# Altium footprint library other.PcbLib: 6 footprints
Each footprint in its own frame and in the unit in brackets; x right, y up, seen from the top. Pads: shape width x height; smd on the part's side, far side on the other; paste and mask are expansions set on the pad; w line width, h text height; cw(c..) or ccw(c..) is an arc to the next point about the centre after c.
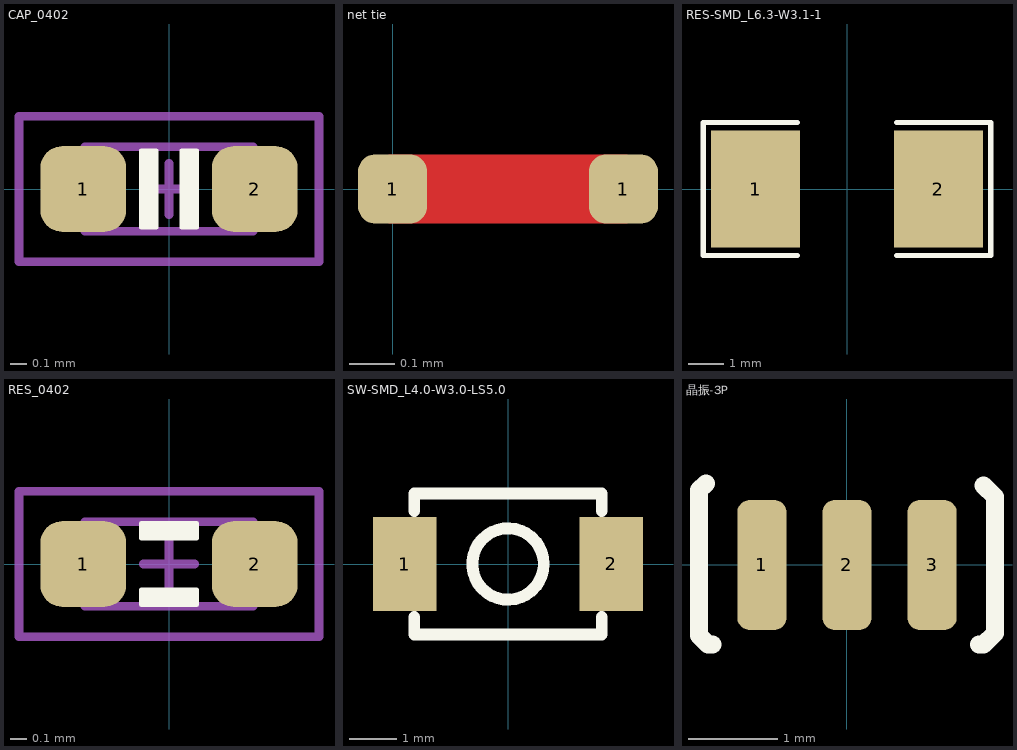
[diagram p0: the footprints below, top view; thin cyan lines are the x and y axes]

## CAP_0402 [mil]
height 21.65
pads (2):
  rrect50% 20x20 smd: 1(-20,0) 2(20,0)
Top Overlay:
  region: -6.5,9 -3,9 -3,-9 -6.5,-9
  region: 6.5,-9 3,-9 3,9 6.5,9
  lines w1: -6.5,-9 -3,-9 -3,9 -6.5,9 -6.5,-9 ; 3,-9 3,9 6.5,9 6.5,-9 3,-9
Mechanical 13:
  lines w2: -6,0 6,0 ; 0,-6 0,6 ; -19.69,-9.84 -19.69,9.84 19.68,9.84 19.68,-9.84 -19.69,-9.84
Mechanical 14:
  lines w2: -35,-17 -35,17 35,17 35,-17 -35,-17
3D body "CAPC1005X05L.step": height 19.68, standoff 0, extent -19.68,-9.84 19.69,9.85

## net tie [mil]
pads (2):
  rrect50% 6x6 smd: 1(0,0) 1(20,0)
Top Layer:
  lines w6: 0,0 20,0

## RES-SMD_L6.3-W3.1-1 [mm]
pads (2):
  rect 2.535x3.348 smd: 1(-2.617,0) 2(2.617,0)
Top Overlay:
  lines w0.152: -1.426,-1.903 -4.114,-1.903 -4.114,1.903 -1.426,1.903 ; 1.426,-1.903 4.114,-1.903 4.114,1.903 1.426,1.903
3D body "User Library-CSS2H-2512.step": height 0.83, standoff 0, extent -3.175,-1.525 3.175,1.525

## RES_0402 [mil]
height 13.78
pads (2):
  rrect50% 20x20 smd: 1(-20,0) 2(20,0)
Top Overlay:
  region: -6.5,9.5 6.5,9.5 6.5,6 -6.5,6
  region: 6.5,-9.5 -6.5,-9.5 -6.5,-6 6.5,-6
  lines w1: -6.5,-9.5 -6.5,-6 6.5,-6 6.5,-9.5 -6.5,-9.5 ; -6.5,6 6.5,6 6.5,9.5 -6.5,9.5 -6.5,6
Mechanical 13:
  lines w2: -6,0 6,0 ; 0,-6 0,6 ; -19.69,-9.84 19.68,-9.84 19.68,9.84 -19.69,9.84 -19.69,-9.84
Mechanical 14:
  lines w2: -35,-17 -35,17 35,17 35,-17 -35,-17
3D body "RESC1005X03L.step": height 13.78, standoff 0, extent -19.68,-9.84 19.69,9.85

## SW-SMD_L4.0-W3.0-LS5.0 [mm]
pads (2):
  rect 1.35x2 smd: 1(-2.2,0) 2(2.2,0)
Top Overlay:
  circle w0.254: c0,0 r0.762
  lines w0.254: -2,-1.131 -2,-1.5 2,-1.5 2,-1.131 ; -2,1.131 -2,1.5 2,1.5 2,1.131
3D body "ts-1185-c-a-b-a.stp": height 2, standoff 0, extent -2.5,-1.5 2.5,1.5

## 晶振-3P [mm] "贴片晶振"
height 4.3
pads (3):
  rrect50% 0.55x1.45 smd: 1(-0.95,0) 2(0,0) 3(0.95,0)
Top Overlay:
  lines w0.2: -1.576,0.911 -1.651,0.836 -1.651,-0.789 -1.551,-0.889 -1.501,-0.889 ; 1.474,-0.889 1.524,-0.889 1.651,-0.762 1.651,0.762 1.524,0.889
3D body: height 0, standoff 0, extent 1.474,-0.89 1.652,0.89
3D body: height 0, standoff 0, extent 1.474,-0.89 1.652,0.89
3D body "123123123.stp": height 0.7, standoff 0, extent -1.6,-0.65 1.6,0.65